# Altium schematic symbol library AB-EZD10C-A3-K65.SchLib: 1 symbol
Pins are listed as number, name and electrical type; pins without a type are passive.

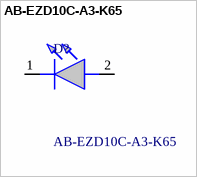
[diagram p0: symbol AB-EZD10C-A3-K65]

## AB-EZD10C-A3-K65
designator D?
White LEDs 1.0W, 12V, CCT 6500K, CRI80, 3030 EMC, DC ezyLED; Manufacturer_Name: American Bright LED; Geometry.Height: 0.62mm; Manufacturer_Part_Number: AB-EZD10C-A3-K65; Mouser Part Number: *; Mouser Price/Stock: *; Arrow Part Number: *; Arrow Price/Stock: *; Datasheet Link: https://www.americanbrightled.com/pdffiles/led-components/ezyled/AB-EZD-12V.pdf
footprint ABEZD10CA3K65
pins: 1 K, 2 A